# EAGLE library part TMS320C6713BZDP225 (library DSPs)
IC FLOATING-POINT DSP 272-BGA Manufacturer's datasheet <http://www.ti.com/lit/ds/symlink/tms320c6713b.pdf>
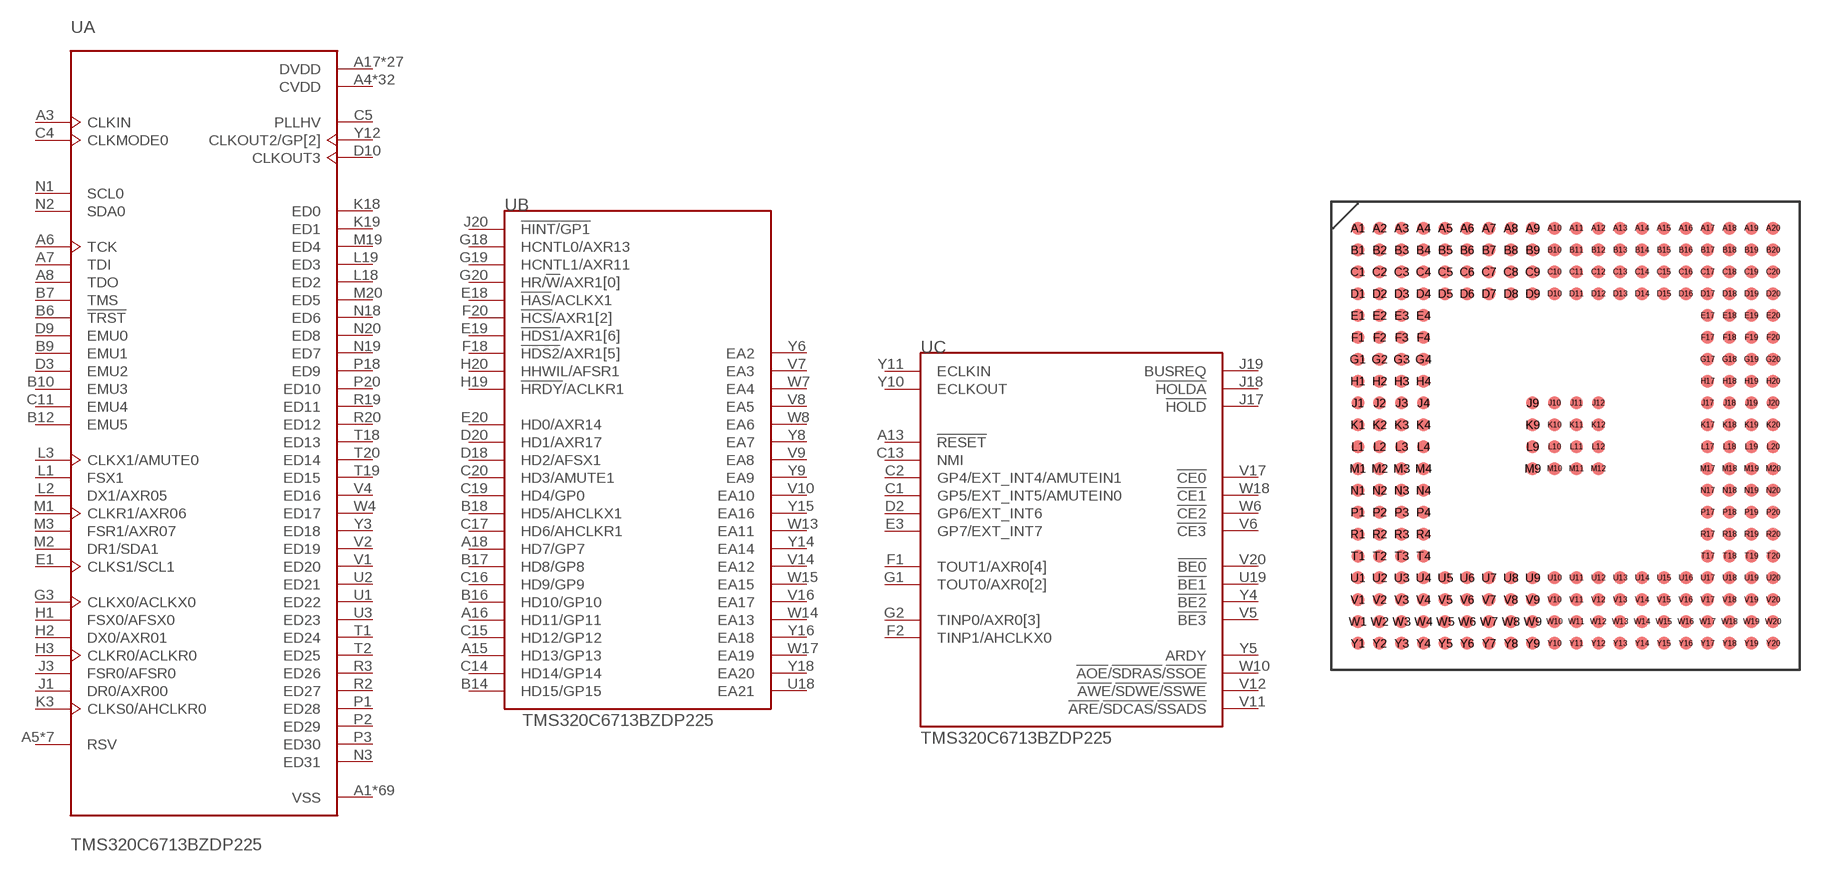
[diagram p0: symbol with the pads of BGA272; footprint BGA272]

Designator prefix U; gates A=TMS320C6713BZDP225_A B=TMS320C6713BZDP225_B C=TMS320C6713BZDP225_C

## TMS320C6713BZDP225 (CREATED_BY: PCBLayout.com; DIGIKEY_PARTNO: 296-18277-ND; MANUFACTURER: Texas Instruments; MPN: TMS320C6713BZDP225; PACKAGE: BGA-272)  [BGA272]
A1  A:VSS  pwr
A2  A:VSS  pwr
A3  A:CLKIN  in
A4  A:CVDD  pwr
A5  A:RSV  pas
A6  A:TCK  in
A7  A:TDI  in
A8  A:TDO  out
A9  A:CVDD  pwr
A10  A:CVDD  pwr
A11  A:VSS  pwr
A12  A:RSV  pas
A13  C:!RESET  in
A14  A:VSS  pwr
A15  B:HD13/GP13
A16  B:HD11/GP11
A17  A:DVDD  pwr
A18  B:HD7/GP7
A19  A:VSS  pwr
A20  A:VSS  pwr
B1  A:VSS  pwr
B2  A:CVDD  pwr
B3  A:DVDD  pwr
B4  A:VSS  pwr
B5  A:RSV  pas
B6  A:!TRST  in
B7  A:TMS  in
B8  A:DVDD  pwr
B9  A:EMU1
B10  A:EMU3
B11  A:RSV  pas
B12  A:EMU5
B13  A:DVDD  pwr
B14  B:HD15/GP15
B15  A:VSS  pwr
B16  B:HD10/GP10
B17  B:HD8/GP8
B18  B:HD5/AHCLKX1
B19  A:CVDD  pwr
B20  A:VSS  pwr
C1  C:GP5/EXT_INT5/AMUTEIN0
C2  C:GP4/EXT_INT4/AMUTEIN1
C3  A:CVDD  pwr
C4  A:CLKMODE0  in
C5  A:PLLHV  pwr
C6  A:VSS  pwr
C7  A:CVDD  pwr
C8  A:VSS  pwr
C9  A:VSS  pwr
C10  A:DVDD  pwr
C11  A:EMU4
C12  A:RSV  pas
C13  C:NMI  in
C14  B:HD14/GP14
C15  B:HD12/GP12
C16  B:HD9/GP9
C17  B:HD6/AHCLKR1
C18  A:CVDD  pwr
C19  B:HD4/GP0
C20  B:HD3/AMUTE1
D1  A:DVDD  pwr
D2  C:GP6/EXT_INT6
D3  A:EMU2
D4  A:VSS  pwr
D5  A:CVDD  pwr
D6  A:CVDD  pwr
D7  A:RSV  pas
D8  A:VSS  pwr
D9  A:EMU0
D10  A:CLKOUT3  out
D11  A:CVDD  pwr
D12  A:RSV  pas
D13  A:VSS  pwr
D14  A:CVDD  pwr
D15  A:CVDD  pwr
D16  A:DVDD  pwr
D17  A:VSS  pwr
D18  B:HD2/AFSX1
D19  A:DVDD  pwr
D20  B:HD1/AXR17
E1  A:CLKS1/SCL1  in
E2  A:VSS  pwr
E3  C:GP7/EXT_INT7
E4  A:VSS  pwr
E17  A:VSS  pwr
E18  B:!HAS!/ACLKX1  in
E19  B:!HDS1!/AXR1[6]  in
E20  B:HD0/AXR14
F1  C:TOUT1/AXR0[4]
F2  C:TINP1/AHCLKX0
F3  A:DVDD  pwr
F4  A:CVDD  pwr
F17  A:CVDD  pwr
F18  B:!HDS2!/AXR1[5]  in
F19  A:VSS  pwr
F20  B:!HCS!/AXR1[2]  in
G1  C:TOUT0/AXR0[2]
G2  C:TINP0/AXR0[3]
G3  A:CLKX0/ACLKX0
G4  A:VSS  pwr
G17  A:VSS  pwr
G18  B:HCNTL0/AXR13  in
G19  B:HCNTL1/AXR11  in
G20  B:HR/!W!/AXR1[0]  in
H1  A:FSX0/AFSX0
H2  A:DX0/AXR01
H3  A:CLKR0/ACLKR0
H4  A:VSS  pwr
H17  A:VSS  pwr
H18  A:DVDD  pwr
H19  B:!HRDY!/ACLKR1  out
H20  B:HHWIL/AFSR1  in
J1  A:DR0/AXR00
J2  A:DVDD  pwr
J3  A:FSR0/AFSR0
J4  A:VSS  pwr
J9  A:VSS  pwr
J10  A:VSS  pwr
J11  A:VSS  pwr
J12  A:VSS  pwr
J17  C:!HOLD  in
J18  C:!HOLDA  out
J19  C:BUSREQ  out
J20  B:!HINT/GP1  out
K1  A:CVDD  pwr
K2  A:VSS  pwr
K3  A:CLKS0/AHCLKR0
K4  A:CVDD  pwr
K9  A:VSS  pwr
K10  A:VSS  pwr
K11  A:VSS  pwr
K12  A:VSS  pwr
K17  A:CVDD  pwr
K18  A:ED0
K19  A:ED1
K20  A:VSS  pwr
L1  A:FSX1
L2  A:DX1/AXR05
L3  A:CLKX1/AMUTE0
L4  A:CVDD  pwr
L9  A:VSS  pwr
L10  A:VSS  pwr
L11  A:VSS  pwr
L12  A:VSS  pwr
L17  A:CVDD  pwr
L18  A:ED2
L19  A:ED3
L20  A:CVDD  pwr
M1  A:CLKR1/AXR06
M2  A:DR1/SDA1  in
M3  A:FSR1/AXR07
M4  A:VSS  pwr
M9  A:VSS  pwr
M10  A:VSS  pwr
M11  A:VSS  pwr
M12  A:VSS  pwr
M17  A:VSS  pwr
M18  A:DVDD  pwr
M19  A:ED4
M20  A:ED5
N1  A:SCL0
N2  A:SDA0
N3  A:ED31
N4  A:VSS  pwr
N17  A:VSS  pwr
N18  A:ED6
N19  A:ED7
N20  A:ED8
P1  A:ED28
P2  A:ED29
P3  A:ED30
P4  A:VSS  pwr
P17  A:VSS  pwr
P18  A:ED9
P19  A:VSS  pwr
P20  A:ED10
R1  A:DVDD  pwr
R2  A:ED27
R3  A:ED26
R4  A:CVDD  pwr
R17  A:CVDD  pwr
R18  A:DVDD  pwr
R19  A:ED11
R20  A:ED12
T1  A:ED24
T2  A:ED25
T3  A:DVDD  pwr
T4  A:VSS  pwr
T17  A:VSS  pwr
T18  A:ED13
T19  A:ED15
T20  A:ED14
U1  A:ED22
U2  A:ED21
U3  A:ED23
U4  A:VSS  pwr
U5  A:DVDD  pwr
U6  A:CVDD  pwr
U7  A:DVDD  pwr
U8  A:VSS  pwr
U9  A:VSS  pwr
U10  A:CVDD  pwr
U11  A:CVDD  pwr
U12  A:DVDD  pwr
U13  A:VSS  pwr
U14  A:CVDD  pwr
U15  A:CVDD  pwr
U16  A:DVDD  pwr
U17  A:VSS  pwr
U18  B:EA21  out
U19  C:!BE1  out
U20  A:VSS  pwr
V1  A:ED20
V2  A:ED19
V3  A:CVDD  pwr
V4  A:ED16
V5  C:!BE3  out
V6  C:!CE3  out
V7  B:EA3  out
V8  B:EA5  out
V9  B:EA8  out
V10  B:EA10  out
V11  C:!ARE!/!SDCAS!/!SSADS!  out
V12  C:!AWE!/!SDWE!/!SSWE  out
V13  A:DVDD  pwr
V14  B:EA12  out
V15  A:DVDD  pwr
V16  B:EA17  out
V17  C:!CE0  out
V18  A:CVDD  pwr
V19  A:DVDD  pwr
V20  C:!BE0  out
W1  A:VSS  pwr
W2  A:CVDD  pwr
W3  A:DVDD  pwr
W4  A:ED17
W5  A:VSS  pwr
W6  C:!CE2  out
W7  B:EA4  out
W8  B:EA6  out
W9  A:DVDD  pwr
W10  C:!AOE!/!SDRAS!/!SSOE!  out
W11  A:VSS  pwr
W12  A:DVDD  pwr
W13  B:EA11  out
W14  B:EA13  out
W15  B:EA15  out
W16  A:VSS  pwr
W17  B:EA19  out
W18  C:!CE1  out
W19  A:CVDD  pwr
W20  A:VSS  pwr
Y1  A:VSS  pwr
Y2  A:VSS  pwr
Y3  A:ED18
Y4  C:!BE2  out
Y5  C:ARDY  in
Y6  B:EA2  out
Y7  A:DVDD  pwr
Y8  B:EA7  out
Y9  B:EA9  out
Y10  C:ECLKOUT  out
Y11  C:ECLKIN  in
Y12  A:CLKOUT2/GP[2]  out
Y13  A:VSS  pwr
Y14  B:EA14  out
Y15  B:EA16  out
Y16  B:EA18  out
Y17  A:DVDD  pwr
Y18  B:EA20  out
Y19  A:VSS  pwr
Y20  A:VSS  pwr

## Footprint BGA272 (pad centres in mm)
smd 0.75 x 0.75: A1 -12.065,12.065; A2 -10.795,12.065; A3 -9.525,12.065; A4 -8.255,12.065; A5 -6.985,12.065; A6 -5.715,12.065; A7 -4.445,12.065; A8 -3.175,12.065; A9 -1.905,12.065; A10 -0.635,12.065; A11 0.635,12.065; A12 1.905,12.065; A13 3.175,12.065; A14 4.445,12.065; A15 5.715,12.065; A16 6.985,12.065; A17 8.255,12.065; A18 9.525,12.065; A19 10.795,12.065; A20 12.065,12.065; B1 -12.065,10.795; B2 -10.795,10.795; B3 -9.525,10.795; B4 -8.255,10.795; B5 -6.985,10.795; B6 -5.715,10.795; B7 -4.445,10.795; B8 -3.175,10.795; B9 -1.905,10.795; B10 -0.635,10.795; B11 0.635,10.795; B12 1.905,10.795; B13 3.175,10.795; B14 4.445,10.795; B15 5.715,10.795; B16 6.985,10.795; B17 8.255,10.795; B18 9.525,10.795; B19 10.795,10.795; B20 12.065,10.795; C1 -12.065,9.525; C2 -10.795,9.525; C3 -9.525,9.525; C4 -8.255,9.525; C5 -6.985,9.525; C6 -5.715,9.525; C7 -4.445,9.525; C8 -3.175,9.525; C9 -1.905,9.525; C10 -0.635,9.525; C11 0.635,9.525; C12 1.905,9.525; C13 3.175,9.525; C14 4.445,9.525; C15 5.715,9.525; C16 6.985,9.525; C17 8.255,9.525; C18 9.525,9.525; C19 10.795,9.525; C20 12.065,9.525; D1 -12.065,8.255; D2 -10.795,8.255; D3 -9.525,8.255; D4 -8.255,8.255; D5 -6.985,8.255; D6 -5.715,8.255; D7 -4.445,8.255; D8 -3.175,8.255; D9 -1.905,8.255; D10 -0.635,8.255; D11 0.635,8.255; D12 1.905,8.255; D13 3.175,8.255; D14 4.445,8.255; D15 5.715,8.255; D16 6.985,8.255; D17 8.255,8.255; D18 9.525,8.255; D19 10.795,8.255; D20 12.065,8.255; E1 -12.065,6.985; E2 -10.795,6.985; E3 -9.525,6.985; E4 -8.255,6.985; E17 8.255,6.985; E18 9.525,6.985; E19 10.795,6.985; E20 12.065,6.985; F1 -12.065,5.715; F2 -10.795,5.715; F3 -9.525,5.715; F4 -8.255,5.715; F17 8.255,5.715; F18 9.525,5.715; F19 10.795,5.715; F20 12.065,5.715; G1 -12.065,4.445; G2 -10.795,4.445; G3 -9.525,4.445; G4 -8.255,4.445; G17 8.255,4.445; G18 9.525,4.445; G19 10.795,4.445; G20 12.065,4.445; H1 -12.065,3.175; H2 -10.795,3.175; H3 -9.525,3.175; H4 -8.255,3.175; H17 8.255,3.175; H18 9.525,3.175; H19 10.795,3.175; H20 12.065,3.175; J1 -12.065,1.905; J2 -10.795,1.905; J3 -9.525,1.905; J4 -8.255,1.905; J9 -1.905,1.905; J10 -0.635,1.905; J11 0.635,1.905; J12 1.905,1.905; J17 8.255,1.905; J18 9.525,1.905; J19 10.795,1.905; J20 12.065,1.905; K1 -12.065,0.635; K2 -10.795,0.635; K3 -9.525,0.635; K4 -8.255,0.635; K9 -1.905,0.635; K10 -0.635,0.635; K11 0.635,0.635; K12 1.905,0.635; K17 8.255,0.635; K18 9.525,0.635; K19 10.795,0.635; K20 12.065,0.635; L1 -12.065,-0.635; L2 -10.795,-0.635; L3 -9.525,-0.635; L4 -8.255,-0.635; L9 -1.905,-0.635; L10 -0.635,-0.635; L11 0.635,-0.635; L12 1.905,-0.635; L17 8.255,-0.635; L18 9.525,-0.635; L19 10.795,-0.635; L20 12.065,-0.635; M1 -12.065,-1.905; M2 -10.795,-1.905; M3 -9.525,-1.905; M4 -8.255,-1.905; M9 -1.905,-1.905; M10 -0.635,-1.905; M11 0.635,-1.905; M12 1.905,-1.905; M17 8.255,-1.905; M18 9.525,-1.905; M19 10.795,-1.905; M20 12.065,-1.905; N1 -12.065,-3.175; N2 -10.795,-3.175; N3 -9.525,-3.175; N4 -8.255,-3.175; N17 8.255,-3.175; N18 9.525,-3.175; N19 10.795,-3.175; N20 12.065,-3.175; P1 -12.065,-4.445; P2 -10.795,-4.445; P3 -9.525,-4.445; P4 -8.255,-4.445; P17 8.255,-4.445; P18 9.525,-4.445; P19 10.795,-4.445; P20 12.065,-4.445; R1 -12.065,-5.715; R2 -10.795,-5.715; R3 -9.525,-5.715; R4 -8.255,-5.715; R17 8.255,-5.715; R18 9.525,-5.715; R19 10.795,-5.715; R20 12.065,-5.715; T1 -12.065,-6.985; T2 -10.795,-6.985; T3 -9.525,-6.985; T4 -8.255,-6.985; T17 8.255,-6.985; T18 9.525,-6.985; T19 10.795,-6.985; T20 12.065,-6.985; U1 -12.065,-8.255; U2 -10.795,-8.255; U3 -9.525,-8.255; U4 -8.255,-8.255; U5 -6.985,-8.255; U6 -5.715,-8.255; U7 -4.445,-8.255; U8 -3.175,-8.255; U9 -1.905,-8.255; U10 -0.635,-8.255; U11 0.635,-8.255; U12 1.905,-8.255; U13 3.175,-8.255; U14 4.445,-8.255; U15 5.715,-8.255; U16 6.985,-8.255; U17 8.255,-8.255; U18 9.525,-8.255; U19 10.795,-8.255; U20 12.065,-8.255; V1 -12.065,-9.525; V2 -10.795,-9.525; V3 -9.525,-9.525; V4 -8.255,-9.525; V5 -6.985,-9.525; V6 -5.715,-9.525; V7 -4.445,-9.525; V8 -3.175,-9.525; V9 -1.905,-9.525; V10 -0.635,-9.525; V11 0.635,-9.525; V12 1.905,-9.525; V13 3.175,-9.525; V14 4.445,-9.525; V15 5.715,-9.525; V16 6.985,-9.525; V17 8.255,-9.525; V18 9.525,-9.525; V19 10.795,-9.525; V20 12.065,-9.525; W1 -12.065,-10.795; W2 -10.795,-10.795; W3 -9.525,-10.795; W4 -8.255,-10.795; W5 -6.985,-10.795; W6 -5.715,-10.795; W7 -4.445,-10.795; W8 -3.175,-10.795; W9 -1.905,-10.795; W10 -0.635,-10.795; W11 0.635,-10.795; W12 1.905,-10.795; W13 3.175,-10.795; W14 4.445,-10.795; W15 5.715,-10.795; W16 6.985,-10.795; W17 8.255,-10.795; W18 9.525,-10.795; W19 10.795,-10.795; W20 12.065,-10.795; Y1 -12.065,-12.065; Y2 -10.795,-12.065; Y3 -9.525,-12.065; Y4 -8.255,-12.065; Y5 -6.985,-12.065; Y6 -5.715,-12.065; Y7 -4.445,-12.065; Y8 -3.175,-12.065; Y9 -1.905,-12.065; Y10 -0.635,-12.065; Y11 0.635,-12.065; Y12 1.905,-12.065; Y13 3.175,-12.065; Y14 4.445,-12.065; Y15 5.715,-12.065; Y16 6.985,-12.065; Y17 8.255,-12.065; Y18 9.525,-12.065; Y19 10.795,-12.065; Y20 12.065,-12.065